# EAGLE library part 8501 (library commodore-plus4)
MOS 8501 CPU
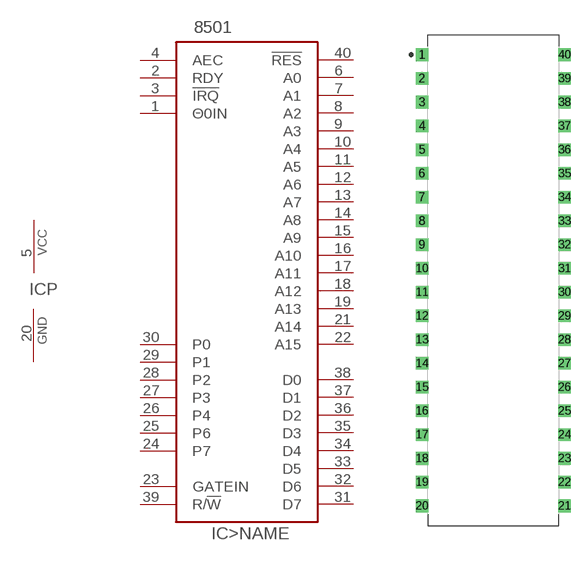
[diagram p0: symbol with the pads of DIP1524W53P254L5232H508Q40B; footprint DIP1524W53P254L5232H508Q40B]

Designator prefix IC; gates >NAME=8501 P=PWRN

## 8501  [DIP1524W53P254L5232H508Q40B]
1  >NAME:Θ0IN
2  >NAME:RDY
3  >NAME:!IRQ
4  >NAME:AEC
5  P:VCC  pwr
6  >NAME:A0  hiz
7  >NAME:A1  hiz
8  >NAME:A2  hiz
9  >NAME:A3  hiz
10  >NAME:A4  hiz
11  >NAME:A5  hiz
12  >NAME:A6  hiz
13  >NAME:A7  hiz
14  >NAME:A8  hiz
15  >NAME:A9  hiz
16  >NAME:A10  hiz
17  >NAME:A11  hiz
18  >NAME:A12  hiz
19  >NAME:A13  hiz
20  P:GND  pwr
21  >NAME:A14  hiz
22  >NAME:A15  hiz
23  >NAME:GATEIN
24  >NAME:P7  hiz
25  >NAME:P6
26  >NAME:P4
27  >NAME:P3
28  >NAME:P2
29  >NAME:P1
30  >NAME:P0
31  >NAME:D7
32  >NAME:D6
33  >NAME:D5
34  >NAME:D4
35  >NAME:D3
36  >NAME:D2
37  >NAME:D1
38  >NAME:D0
39  >NAME:R/!W
40  >NAME:!RES

## Footprint DIP1524W53P254L5232H508Q40B (pad centres in mm)
40-DIP, 2.54 mm (0.10 in) pitch, 15.24 mm (0.60 in) span, 52.32 X 13.72 X 5.08 mm body 40-pin DIP package with 2.54 mm (0.10 in) pitch, 15.24 mm (0.60 in) span with body size 52.32 X 13.72 X 5.08 mm
drill 0.743 pad 1.343 square: 1 -7.62,24.13; 2 -7.62,21.59; 3 -7.62,19.05; 4 -7.62,16.51; 5 -7.62,13.97; 6 -7.62,11.43; 7 -7.62,8.89; 8 -7.62,6.35; 9 -7.62,3.81; 10 -7.62,1.27; 11 -7.62,-1.27; 12 -7.62,-3.81; 13 -7.62,-6.35; 14 -7.62,-8.89; 15 -7.62,-11.43; 16 -7.62,-13.97; 17 -7.62,-16.51; 18 -7.62,-19.05; 19 -7.62,-21.59; 20 -7.62,-24.13; 21 7.62,-24.13; 22 7.62,-21.59; 23 7.62,-19.05; 24 7.62,-16.51; 25 7.62,-13.97; 26 7.62,-11.43; 27 7.62,-8.89; 28 7.62,-6.35; 29 7.62,-3.81; 30 7.62,-1.27; 31 7.62,1.27; 32 7.62,3.81; 33 7.62,6.35; 34 7.62,8.89; 35 7.62,11.43; 36 7.62,13.97; 37 7.62,16.51; 38 7.62,19.05; 39 7.62,21.59; 40 7.62,24.13